# Altium footprint library Components.PcbLib: 22 footprints (part 2 of 2)
Each footprint in its own frame and in the unit in brackets; x right, y up, seen from the top. Pads: shape width x height; smd on the part's side, far side on the other; paste and mask are expansions set on the pad; w line width, h text height; cw(c..) or ccw(c..) is an arc to the next point about the centre after c.
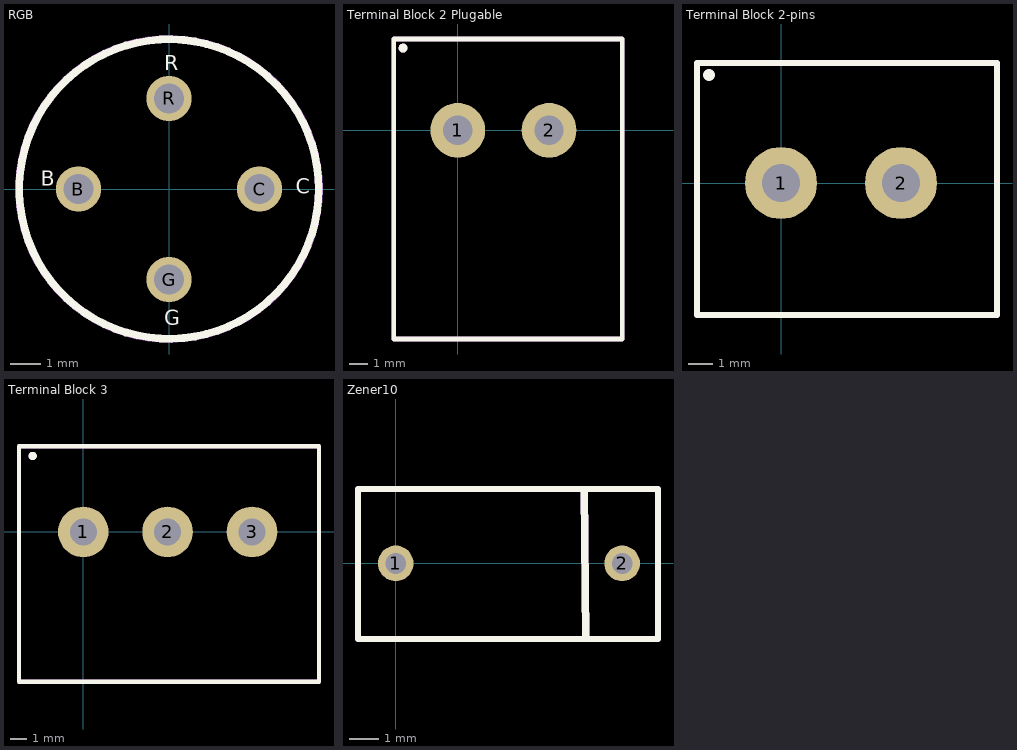
[diagram p1: the footprints below, top view; thin cyan lines are the x and y axes]

## RGB [mm]
pads (4):
  round 1.5 hole 1: B(-3,0) C(3,0) G(0,-3) R(0,3)
Top Overlay:
  circle w0.254: c0,0 r4.962
  text "C" at 4.196,-0.156 h0.5
  text "R" at -0.156,3.94 h0.5
  text "B" at -4.252,0.1 h0.5
  text "G" at -0.156,-4.508 h0.5
Assembly Notes:
  circle w0.254: c0,0 r4.971
  text ".Designator" at -3.084,-1.572 h3
3D body "5MM LED RED.step": height 8.6, standoff -5, extent -2.55,-2.55 2.55,2.55

## Terminal Block 2 Plugable [mm]
pads (2):
  round 3 hole 1.6: 1(0,0) 2(5,0)
Top Overlay:
  circle w0.254: c-3,4.5 r0.116
  lines w0.254: -3.5,-11.43 -3.5,5 9,5 9,-11.43 -3.5,-11.43
Assembly Notes:
  circle w0.254: c-3,4.5 r0.116
  lines w0.254: -3.5,-11.43 -3.5,5 9,5 9,-11.43 -3.5,-11.43
  text ".Designator" at -1.84,-8.127 h4
3D body "terminal pluggable.SLDPRT": height 9.2, standoff -3.4, extent -2.46,-10.16 7.54,1.84

## Terminal Block 2-pins [mm] "Throwhole"
pads (2):
  round 3 hole 1.6: 1(0,0) 2(5,0)
Top Overlay:
  circle w0.254: c-3,4.5 r0.116
  lines w0.254: -3.5,-5.5 9,-5.5 9,5 -3.5,5 -3.5,-5.5
Assembly Notes:
  circle w0.254: c-3,4.5 r0.116
  lines w0.254: -3.5,-5.5 9,-5.5 9,5 -3.5,5 -3.5,-5.5
  text ".Designator" at -2.3,-2.967 h4
3D body "1935161--3DModel-STEP-56544.STEP": height 11.7, standoff -3.2, extent -2.438,-4.956 7.962,4.044

## Terminal Block 3 [mm]
pads (3):
  round 3 hole 1.6: 1(0,0) 2(5,0) 3(10,0)
Top Overlay:
  circle w0.254: c-3,4.5 r0.116
  lines w0.254: -3.81,-8.89 13.97,-8.89 13.97,5.08 12.7,5.08 -3.81,5.08 -3.81,-8.89
Assembly Notes:
  circle w0.254: c-3,4.5 r0.116
  lines w0.254: -3.81,-8.89 13.97,-8.89 13.97,5.08 12.7,5.08 -3.81,5.08 -3.81,-8.89
  text ".Designator" at -2.3,-2.967 h4
3D body "kf2edgv-x-5.08-3p male connector .STEP": height 8.67, standoff -3.83, extent -2.54,-8.29 12.7,3.81

## Zener [mm]

## Zener10 [mm]
pads (2):
  round 1.2 hole 0.7: 1(0,0) 2(7.62,0)
Top Overlay:
  lines w0.2: -1.27,-2.54 -1.27,2.5 3.775,2.5 8.825,2.5 8.825,-2.54 -1.27,-2.54
  lines w0.254: 6.345,2.462 6.394,-2.461
Assembly Notes:
  lines w0.2: -1.27,-2.54 -1.27,2.5 3.775,2.5 8.825,2.5 8.825,-2.54 -1.27,-2.54
  lines w0.254: 6.345,2.462 6.394,-2.461
  text ".Designator" at 0.4,-1.474 h2
3D body "DO-35.step": height 2, standoff -3, extent -0.258,-1.004 7.858,1.004